# Altium footprint library SC_PLCC44.PcbLib: 1 footprints
Each footprint in its own frame and in the unit in brackets; x right, y up, seen from the top. Pads: shape width x height; smd on the part's side, far side on the other; paste and mask are expansions set on the pad; w line width, h text height; cw(c..) or ccw(c..) is an arc to the next point about the centre after c.
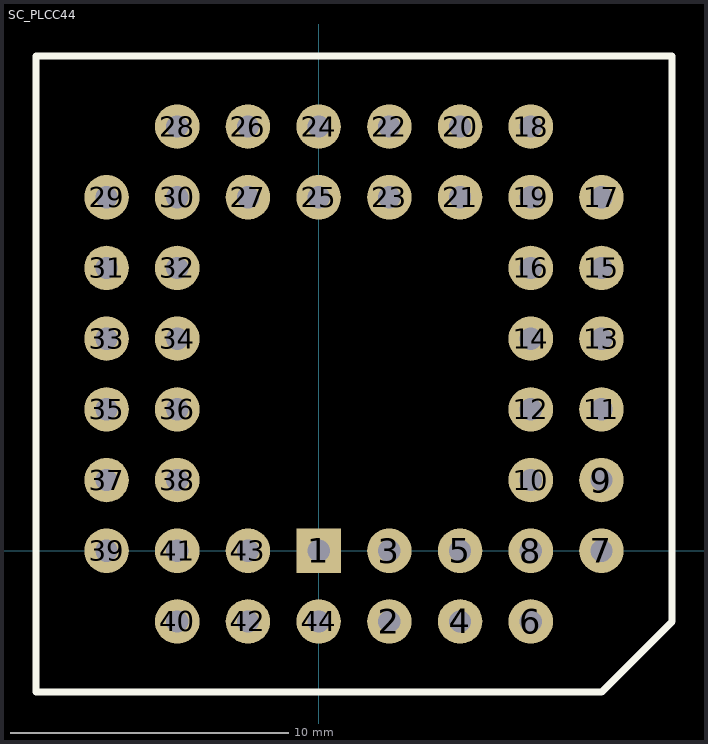
[diagram p0: the footprint, top view; thin cyan lines are the x and y axes]

## SC_PLCC44 [mm] "PLCC44"
pads (44):
  rect 1.6x1.6 hole 0.8: 1(0,0)
  round 1.6 hole 0.8: 2(2.54,-2.54) 3(2.54,0) 4(5.08,-2.54) 5(5.08,0) 6(7.62,-2.54) 7(10.16,0) 8(7.62,0) 9(10.16,2.54) 10(7.62,2.54) 11(10.16,5.08) 12(7.62,5.08) 13(10.16,7.62) 14(7.62,7.62) 15(10.16,10.16) 16(7.62,10.16) 17(10.16,12.7) 18(7.62,15.24) 19(7.62,12.7) 20(5.08,15.24) 21(5.08,12.7) 22(2.54,15.24) 23(2.54,12.7) 24(0,15.24) 25(0,12.7) 26(-2.54,15.24) 27(-2.54,12.7) 28(-5.08,15.24) 29(-7.62,12.7) 30(-5.08,12.7) 31(-7.62,10.16) 32(-5.08,10.16) 33(-7.62,7.62) 34(-5.08,7.62) 35(-7.62,5.08) 36(-5.08,5.08) 37(-7.62,2.54) 38(-5.08,2.54) 39(-7.62,0) 40(-5.08,-2.54) 41(-5.08,0) 42(-2.54,-2.54) 43(-2.54,0) 44(0,-2.54)
Top Overlay:
  lines w0.254: -10.16,-5.08 10.16,-5.08 12.7,-2.54 12.7,17.78 -10.16,17.78 -10.16,-5.08
3D body: height 8, standoff 3.61, extent -7.492,-2.412 10.033,15.112